# EAGLE library part 610*22243021 (library power_distribution)
22-Pin Bottom Entry Connector from Würth Elektronik
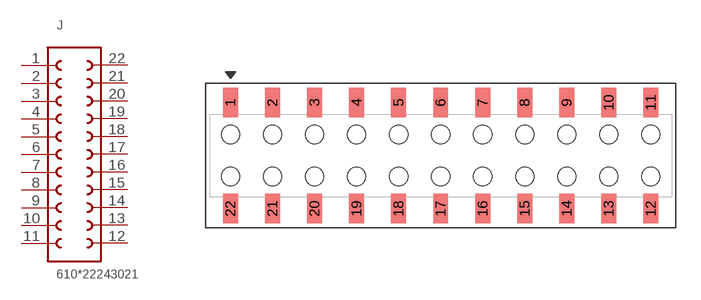
[diagram p4: symbol with the pads of 610022243021; footprint 610022243021]

Designator prefix J

## 61022243021, 610022243021 (MF: Würth Elektronik; MPN: 610022243021), 610322243021 (MF: Würth Elektronik; MPN: 610322243021)  [610022243021]
1  1  pas
2  2  pas
3  3  pas
4  4  pas
5  5  pas
6  6  pas
7  7  pas
8  8  pas
9  9  pas
10  10  pas
11  11  pas
12  12  pas
13  13  pas
14  14  pas
15  15  pas
16  16  pas
17  17  pas
18  18  pas
19  19  pas
20  20  pas
21  21  pas
22  22  pas

## Footprint 610022243021 (pad centres in mm)
WR-PHD 2.54mm SMT Dual Socket Header Bottom Entry, 22 Pins
smd 0.9 x 1.8: 1 -12.7,3.2; 2 -10.16,3.2; 3 -7.62,3.2; 4 -5.08,3.2; 5 -2.54,3.2; 6 0,3.2; 7 2.54,3.2; 8 5.08,3.2; 9 7.62,3.2; 10 10.16,3.2; 11 12.7,3.2; 12 12.7,-3.2; 13 10.16,-3.2; 14 7.62,-3.2; 15 5.08,-3.2; 16 2.54,-3.2; 17 0,-3.2; 18 -2.54,-3.2; 19 -5.08,-3.2; 20 -7.62,-3.2; 21 -10.16,-3.2; 22 -12.7,-3.2
hole 1.1 at -12.7,1.27
hole 1.1 at -10.16,1.27
hole 1.1 at -10.16,-1.27
hole 1.1 at -12.7,-1.27
hole 1.1 at -7.62,1.27
hole 1.1 at -7.62,-1.27
hole 1.1 at -5.08,1.27
hole 1.1 at -5.08,-1.27
hole 1.1 at -2.54,1.27
hole 1.1 at -2.54,-1.27
hole 1.1 at 0,1.27
hole 1.1 at 0,-1.27
hole 1.1 at 2.54,1.27
hole 1.1 at 2.54,-1.27
hole 1.1 at 5.08,1.27
hole 1.1 at 5.08,-1.27
hole 1.1 at 7.62,1.27
hole 1.1 at 7.62,-1.27
hole 1.1 at 10.16,1.27
hole 1.1 at 10.16,-1.27
hole 1.1 at 12.7,1.27
hole 1.1 at 12.7,-1.27